# EAGLE library part SNESCONN (library gamepad-conn)
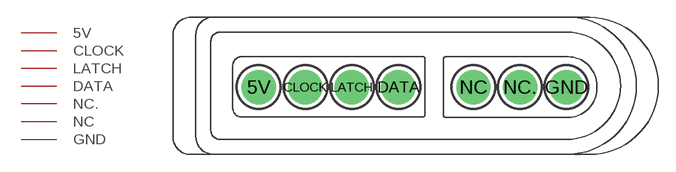
[diagram p0: symbol with the pads of SNESCONN; footprint SNESCONN]

Designator prefix -

## SNESCONN  [SNESCONN]
5V  5V  in
CLOCK  CLOCK  in
DATA  DATA
GND  GND  pwr
LATCH  LATCH  in
NC  NC  nc
NC.  NC.  nc

## Footprint SNESCONN (pad centres in mm)
drill 2 pad 2.9: 5V 0,4.064; CLOCK 4.064,4.064; DATA 12.192,4.064; GND 26.884,4.064; LATCH 8.128,4.064; NC 18.756,4.064; NC. 22.82,4.064